# Altium schematic symbol library panasonic.SchLib: 3 symbols
Pins are listed as number, name and electrical type; pins without a type are passive.

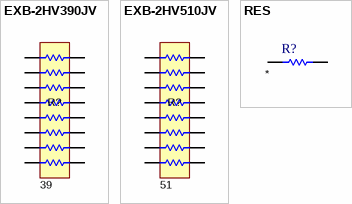
[diagram p0: symbols EXB-2HV390JV to RES]

## EXB-2HV390JV
designator R?  value 39  (hidden comment: EXB-2HV390JV)
RESISTOR ARRAY 8X 51 OHM 1506; MFG: PANASONIC; Tolerance: 5%; MPN: EXB-2HV390JV
footprint 1508_ARRAY_8
pins: 1, 2, 3, 4, 5, 6, 7, 8, 9, 10, 11, 12, 13, 14, 15, 16

## EXB-2HV510JV
designator R?  value 51  (hidden comment: EXB-2HV510JV)
RESISTOR ARRAY 8X 51 OHM 1506; MFG: PANASONIC; Tolerance: 5%; MPN: EXB-2HV510JV
footprint 1508_ARRAY_8
pins: 1, 2, 3, 4, 5, 6, 7, 8, 9, 10, 11, 12, 13, 14, 15, 16

## RES
designator R?  (value not drawn)
Tcr: *; Tolerance: *; MFG: *; MPN: *; Tr: *; Voltage: *; Power: *; Qual: *; Value: *
pins: 1, 2